# Altium integrated library Wuerth Elektronik SMD Power Choke.IntLib: 844 symbols (part 3 of 9)
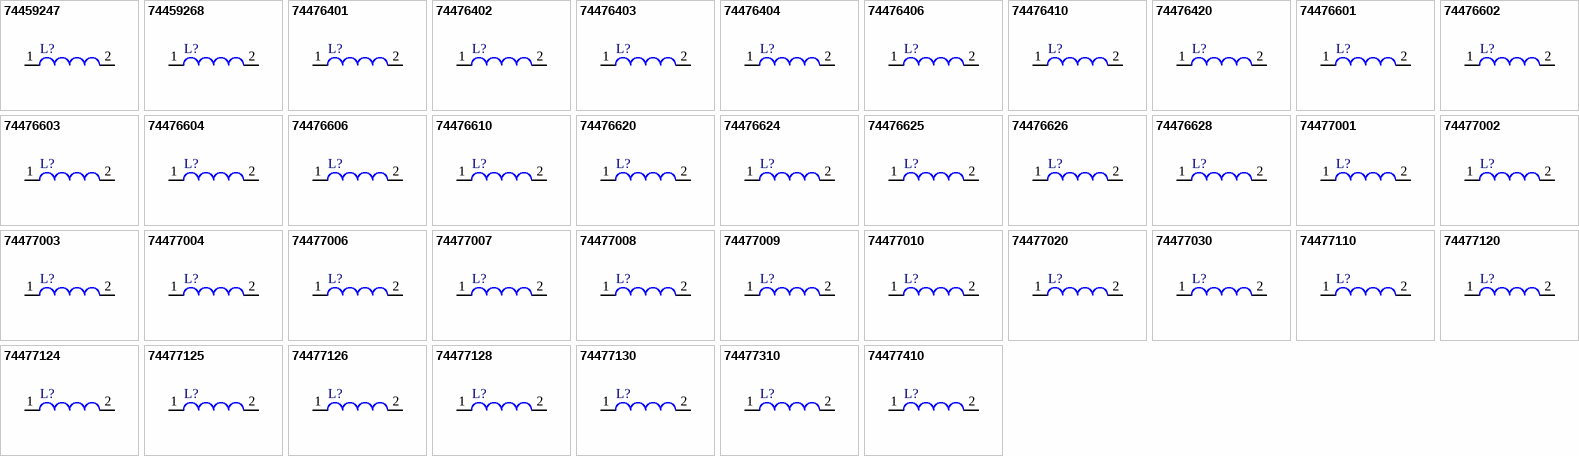
[diagram p24: symbols 74459247 to 74477410]

## 74477030
designator L?
SMD-Shielded Power Inductor WE-PD, L = 1000 µH; Inductance: 1000 µH; DatasheetVersion: ver 5, Oct-2004; PackageVersion: 2004; PackageReference: WE-PD-XL; PackageDescription: SMD Inductor, 2-Leads, Body 12.0 x 12.0 mm; ComponentLink1Description: Manufacturer URL; ComponentLink1URL: http://www.we-online.com; ComponentLink2Description: Datasheet; ComponentLink2URL: http://www.we-online.de/katalog/media/pdf/74477030.pdf
footprint WE-PD-XL (SMD Inductor, 2-Leads, Body 12.0x12.0x8.0 mm)
pins: 1, 2

## 74477110
designator L?
SMD-Shielded Power Inductor WE-PD, L = 10.0 µH; Inductance: 10.0 µH; DatasheetVersion: ver 7, Sep-2006; PackageVersion: 2006; PackageReference: WE-PD-L; PackageDescription: SMD Inductor, 2-Leads, Body 12.0 x 12.0 mm; ComponentLink1Description: Manufacturer URL; ComponentLink1URL: http://www.we-online.com; ComponentLink2Description: Datasheet; ComponentLink2URL: http://www.we-online.de/katalog/media/pdf/74477110.pdf
footprint WE-PD-L (SMD Inductor, 2-Leads, Body 12.0x12.0x6.0 mm)
pins: 1, 2

## 74477120
designator L?
SMD-Shielded Power Inductor WE-PD, L = 100 µH; Inductance: 100 µH; DatasheetVersion: ver 6, Jun-2005; PackageVersion: 2006; PackageReference: WE-PD-L; PackageDescription: SMD Inductor, 2-Leads, Body 12.0 x 12.0 mm; ComponentLink1Description: Manufacturer URL; ComponentLink1URL: http://www.we-online.com; ComponentLink2Description: Datasheet; ComponentLink2URL: http://www.we-online.de/katalog/media/pdf/74477120.pdf
footprint WE-PD-L (SMD Inductor, 2-Leads, Body 12.0x12.0x6.0 mm)
pins: 1, 2

## 74477124
designator L?
SMD-Shielded Power Inductor WE-PD, L = 470 µH; Inductance: 470 µH; DatasheetVersion: ver 6, Jun-2005; PackageVersion: 2006; PackageReference: WE-PD-L; PackageDescription: SMD Inductor, 2-Leads, Body 12.0 x 12.0 mm; ComponentLink1Description: Manufacturer URL; ComponentLink1URL: http://www.we-online.com; ComponentLink2Description: Datasheet; ComponentLink2URL: http://www.we-online.de/katalog/media/pdf/74477124.pdf
footprint WE-PD-L (SMD Inductor, 2-Leads, Body 12.0x12.0x6.0 mm)
pins: 1, 2

## 74477125
designator L?
SMD-Shielded Power Inductor WE-PD, L = 560 µH; Inductance: 560 µH; DatasheetVersion: ver 6, Jun-2005; PackageVersion: 2006; PackageReference: WE-PD-L; PackageDescription: SMD Inductor, 2-Leads, Body 12.0 x 12.0 mm; ComponentLink1Description: Manufacturer URL; ComponentLink1URL: http://www.we-online.com; ComponentLink2Description: Datasheet; ComponentLink2URL: http://www.we-online.de/katalog/media/pdf/74477125.pdf
footprint WE-PD-L (SMD Inductor, 2-Leads, Body 12.0x12.0x6.0 mm)
pins: 1, 2

## 74477126
designator L?
SMD-Shielded Power Inductor WE-PD, L = 680 µH; Inductance: 680 µH; DatasheetVersion: ver 6, Jun-2005; PackageVersion: 2006; PackageReference: WE-PD-L; PackageDescription: SMD Inductor, 2-Leads, Body 12.0 x 12.0 mm; ComponentLink1Description: Manufacturer URL; ComponentLink1URL: http://www.we-online.com; ComponentLink2Description: Datasheet; ComponentLink2URL: http://www.we-online.de/katalog/media/pdf/74477126.pdf
footprint WE-PD-L (SMD Inductor, 2-Leads, Body 12.0x12.0x6.0 mm)
pins: 1, 2

## 74477128
designator L?
SMD-Shielded Power Inductor WE-PD, L = 820 µH; Inductance: 820 µH; DatasheetVersion: ver 6, Jun-2005; PackageVersion: 2006; PackageReference: WE-PD-L; PackageDescription: SMD Inductor, 2-Leads, Body 12.0 x 12.0 mm; ComponentLink1Description: Manufacturer URL; ComponentLink1URL: http://www.we-online.com; ComponentLink2Description: Datasheet; ComponentLink2URL: http://www.we-online.de/katalog/media/pdf/74477128.pdf
footprint WE-PD-L (SMD Inductor, 2-Leads, Body 12.0x12.0x6.0 mm)
pins: 1, 2

## 74477130
designator L?
SMD-Shielded Power Inductor WE-PD, L = 1000 µH; Inductance: 1000 µH; DatasheetVersion: ver 6, Jun-2005; PackageVersion: 2006; PackageReference: WE-PD-L; PackageDescription: SMD Inductor, 2-Leads, Body 12.0 x 12.0 mm; ComponentLink1Description: Manufacturer URL; ComponentLink1URL: http://www.we-online.com; ComponentLink2Description: Datasheet; ComponentLink2URL: http://www.we-online.de/katalog/media/pdf/74477130.pdf
footprint WE-PD-L (SMD Inductor, 2-Leads, Body 12.0x12.0x6.0 mm)
pins: 1, 2

## 74477310
designator L?
SMD Power Inductor WE-PD2, L = 10.0 µH; Inductance: 10.0 µH; DatasheetVersion: ver 1, Oct-2004; PackageVersion: 2004; PackageReference: WE-PD2-S; PackageDescription: SMD Inductor, 2-Leads, Body 4.5 x 4.0 mm; ComponentLink1Description: Manufacturer URL; ComponentLink1URL: http://www.we-online.com; ComponentLink2Description: Datasheet; ComponentLink2URL: http://www.we-online.de/katalog/media/pdf/74477310.pdf
footprint WE-PD2-S (SMD Inductor, 2-Leads, Body 4.5x4.0x3.5 mm)
pins: 1, 2

## 74477410
designator L?
SMD Power Inductor WE-PD2, L = 10.0 µH; Inductance: 10.0 µH; DatasheetVersion: ver 4, Oct-2008; PackageVersion: 2005; PackageReference: WE-PD2-M; PackageDescription: SMD Inductor, 2-Leads, Body 5.8 x 5.2 mm; ComponentLink1Description: Manufacturer URL; ComponentLink1URL: http://www.we-online.com; ComponentLink2Description: Datasheet; ComponentLink2URL: http://www.we-online.de/katalog/media/pdf/74477410.pdf
footprint WE-PD2-M (SMD Inductor, 2-Leads, Body 5.8x5.2x4.85 mm)
pins: 1, 2

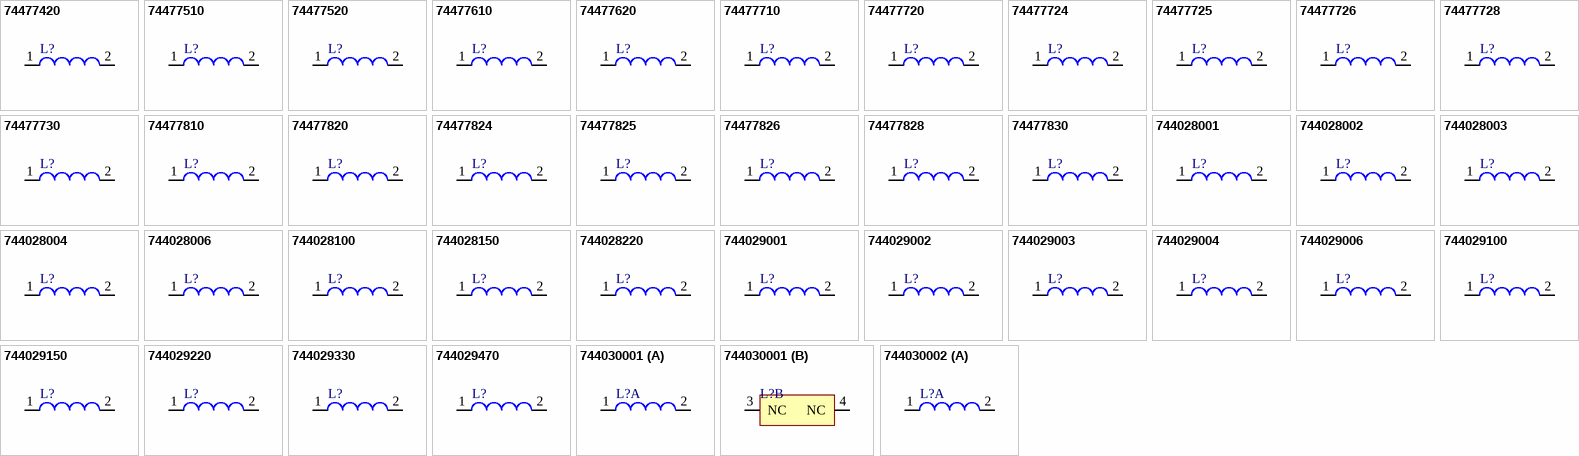
[diagram p5: symbols 74477420 to 744030002]

## 74477420
designator L?
SMD Power Inductor WE-PD2, L = 100 µH; Inductance: 100 µH; DatasheetVersion: ver 2, Jun-2005; PackageVersion: 2005; PackageReference: WE-PD2-M; PackageDescription: SMD Inductor, 2-Leads, Body 5.8 x 5.2 mm; ComponentLink1Description: Manufacturer URL; ComponentLink1URL: http://www.we-online.com; ComponentLink2Description: Datasheet; ComponentLink2URL: http://www.we-online.de/katalog/media/pdf/74477420.pdf
footprint WE-PD2-M (SMD Inductor, 2-Leads, Body 5.8x5.2x4.85 mm)
pins: 1, 2

## 74477510
designator L?
SMD Power Inductor WE-PD2, L = 10.0 µH; Inductance: 10.0 µH; DatasheetVersion: ver 1, Oct-2004; PackageVersion: 2004; PackageReference: WE-PD2-L; PackageDescription: SMD Inductor, 2-Leads, Body 7.8 x 7.0 mm; ComponentLink1Description: Manufacturer URL; ComponentLink1URL: http://www.we-online.com; ComponentLink2Description: Datasheet; ComponentLink2URL: http://www.we-online.de/katalog/media/pdf/74477510.pdf
footprint WE-PD2-L (SMD Inductor, 2-Leads, Body 7.8x7.0x5.5 mm)
pins: 1, 2

## 74477520
designator L?
SMD Power Inductor WE-PD2, L = 100 µH; Inductance: 100 µH; DatasheetVersion: ver 1, Oct-2004; PackageVersion: 2004; PackageReference: WE-PD2-L; PackageDescription: SMD Inductor, 2-Leads, Body 7.8 x 7.0 mm; ComponentLink1Description: Manufacturer URL; ComponentLink1URL: http://www.we-online.com; ComponentLink2Description: Datasheet; ComponentLink2URL: http://www.we-online.de/katalog/media/pdf/74477520.pdf
footprint WE-PD2-L (SMD Inductor, 2-Leads, Body 7.8x7.0x5.5 mm)
pins: 1, 2

## 74477610
designator L?
SMD Power Inductor WE-PD2, L = 10.0 µH; Inductance: 10.0 µH; DatasheetVersion: ver 1, Oct-2004; PackageVersion: 2004; PackageReference: WE-PD2-XL; PackageDescription: SMD Inductor, 2-Leads, Body 10.0 x 9.0 mm; ComponentLink1Description: Manufacturer URL; ComponentLink1URL: http://www.we-online.com; ComponentLink2Description: Datasheet; ComponentLink2URL: http://www.we-online.de/katalog/media/pdf/74477610.pdf
footprint WE-PD2-XL (SMD Inductor, 2-Leads, Body 10.0x9.0x5.9 mm)
pins: 1, 2

## 74477620
designator L?
SMD Power Inductor WE-PD2, L = 100 µH; Inductance: 100 µH; DatasheetVersion: ver 1, Oct-2004; PackageVersion: 2004; PackageReference: WE-PD2-XL; PackageDescription: SMD Inductor, 2-Leads, Body 10.0 x 9.0 mm; ComponentLink1Description: Manufacturer URL; ComponentLink1URL: http://www.we-online.com; ComponentLink2Description: Datasheet; ComponentLink2URL: http://www.we-online.de/katalog/media/pdf/74477620.pdf
footprint WE-PD2-XL (SMD Inductor, 2-Leads, Body 10.0x9.0x5.9 mm)
pins: 1, 2

## 74477710
designator L?
SMD-Shielded Power Inductor WE-PD, L = 10.0 µH; Inductance: 10.0 µH; DatasheetVersion: ver 2, Oct-2004; PackageVersion: 2006; PackageReference: WE-PD-M; PackageDescription: SMD Inductor, 2-Leads, Body 7.3 x 7.3 mm; ComponentLink1Description: Manufacturer URL; ComponentLink1URL: http://www.we-online.com; ComponentLink2Description: Datasheet; ComponentLink2URL: http://www.we-online.de/katalog/media/pdf/74477710.pdf
footprint WE-PD-M (SMD Inductor, 2-Leads, Body 7.3x7.3x4.5 mm)
pins: 1, 2

## 74477720
designator L?
SMD-Shielded Power Inductor WE-PD, L = 100 µH; Inductance: 100 µH; DatasheetVersion: ver 2, Oct-2004; PackageVersion: 2006; PackageReference: WE-PD-M; PackageDescription: SMD Inductor, 2-Leads, Body 7.3 x 7.3 mm; ComponentLink1Description: Manufacturer URL; ComponentLink1URL: http://www.we-online.com; ComponentLink2Description: Datasheet; ComponentLink2URL: http://www.we-online.de/katalog/media/pdf/74477720.pdf
footprint WE-PD-M (SMD Inductor, 2-Leads, Body 7.3x7.3x4.5 mm)
pins: 1, 2

## 74477724
designator L?
SMD-Shielded Power Inductor WE-PD, L = 470 µH; Inductance: 470 µH; DatasheetVersion: ver 2, Oct-2004; PackageVersion: 2006; PackageReference: WE-PD-M; PackageDescription: SMD Inductor, 2-Leads, Body 7.3 x 7.3 mm; ComponentLink1Description: Manufacturer URL; ComponentLink1URL: http://www.we-online.com; ComponentLink2Description: Datasheet; ComponentLink2URL: http://www.we-online.de/katalog/media/pdf/74477724.pdf
footprint WE-PD-M (SMD Inductor, 2-Leads, Body 7.3x7.3x4.5 mm)
pins: 1, 2

## 74477725
designator L?
SMD-Shielded Power Inductor WE-PD, L = 560 µH; Inductance: 560 µH; DatasheetVersion: ver 2, Oct-2004; PackageVersion: 2006; PackageReference: WE-PD-M; PackageDescription: SMD Inductor, 2-Leads, Body 7.3 x 7.3 mm; ComponentLink1Description: Manufacturer URL; ComponentLink1URL: http://www.we-online.com; ComponentLink2Description: Datasheet; ComponentLink2URL: http://www.we-online.de/katalog/media/pdf/74477725.pdf
footprint WE-PD-M (SMD Inductor, 2-Leads, Body 7.3x7.3x4.5 mm)
pins: 1, 2

## 74477726
designator L?
SMD-Shielded Power Inductor WE-PD, L = 680 µH; Inductance: 680 µH; DatasheetVersion: ver 2, Oct-2004; PackageVersion: 2006; PackageReference: WE-PD-M; PackageDescription: SMD Inductor, 2-Leads, Body 7.3 x 7.3 mm; ComponentLink1Description: Manufacturer URL; ComponentLink1URL: http://www.we-online.com; ComponentLink2Description: Datasheet; ComponentLink2URL: http://www.we-online.de/katalog/media/pdf/74477726.pdf
footprint WE-PD-M (SMD Inductor, 2-Leads, Body 7.3x7.3x4.5 mm)
pins: 1, 2

## 74477728
designator L?
SMD-Shielded Power Inductor WE-PD, L = 820 µH; Inductance: 820 µH; DatasheetVersion: ver 2, Oct-2004; PackageVersion: 2006; PackageReference: WE-PD-M; PackageDescription: SMD Inductor, 2-Leads, Body 7.3 x 7.3 mm; ComponentLink1Description: Manufacturer URL; ComponentLink1URL: http://www.we-online.com; ComponentLink2Description: Datasheet; ComponentLink2URL: http://www.we-online.de/katalog/media/pdf/74477728.pdf
footprint WE-PD-M (SMD Inductor, 2-Leads, Body 7.3x7.3x4.5 mm)
pins: 1, 2

## 74477730
designator L?
SMD-Shielded Power Inductor WE-PD, L = 1000 µH; Inductance: 1000 µH; DatasheetVersion: ver 4, Oct-2004; PackageVersion: 2006; PackageReference: WE-PD-M; PackageDescription: SMD Inductor, 2-Leads, Body 7.3 x 7.3 mm; ComponentLink1Description: Manufacturer URL; ComponentLink1URL: http://www.we-online.com; ComponentLink2Description: Datasheet; ComponentLink2URL: http://www.we-online.de/katalog/media/pdf/74477730.pdf
footprint WE-PD-M (SMD Inductor, 2-Leads, Body 7.3x7.3x4.5 mm)
pins: 1, 2

## 74477810
designator L?
SMD-Shielded Power Inductor WE-PD, L = 10.0 µH; Inductance: 10.0 µH; DatasheetVersion: ver 6, Oct-2001; PackageVersion: 2004; PackageReference: WE-PD-S; PackageDescription: SMD Inductor, 2-Leads, Body 7.3 x 7.3 mm; ComponentLink1Description: Manufacturer URL; ComponentLink1URL: http://www.we-online.com; ComponentLink2Description: Datasheet; ComponentLink2URL: http://www.we-online.de/katalog/media/pdf/74477810.pdf
footprint WE-PD-S (SMD Inductor, 2-Leads, Body 7.3x7.3x3.4 mm)
pins: 1, 2

## 74477820
designator L?
SMD-Shielded Power Inductor WE-PD, L = 100 µH; Inductance: 100 µH; DatasheetVersion: ver 5, Oct-2004; PackageVersion: 2004; PackageReference: WE-PD-S; PackageDescription: SMD Inductor, 2-Leads, Body 7.3 x 7.3 mm; ComponentLink1Description: Manufacturer URL; ComponentLink1URL: http://www.we-online.com; ComponentLink2Description: Datasheet; ComponentLink2URL: http://www.we-online.de/katalog/media/pdf/74477820.pdf
footprint WE-PD-S (SMD Inductor, 2-Leads, Body 7.3x7.3x3.4 mm)
pins: 1, 2

## 74477824
designator L?
SMD-Shielded Power Inductor WE-PD, L = 470 µH; Inductance: 470 µH; DatasheetVersion: ver 5, Oct-2004; PackageVersion: 2004; PackageReference: WE-PD-S; PackageDescription: SMD Inductor, 2-Leads, Body 7.3 x 7.3 mm; ComponentLink1Description: Manufacturer URL; ComponentLink1URL: http://www.we-online.com; ComponentLink2Description: Datasheet; ComponentLink2URL: http://www.we-online.de/katalog/media/pdf/74477824.pdf
footprint WE-PD-S (SMD Inductor, 2-Leads, Body 7.3x7.3x3.4 mm)
pins: 1, 2

## 74477825
designator L?
SMD-Shielded Power Inductor WE-PD, L = 560 µH; Inductance: 560 µH; DatasheetVersion: ver 5, Oct-2004; PackageVersion: 2004; PackageReference: WE-PD-S; PackageDescription: SMD Inductor, 2-Leads, Body 7.3 x 7.3 mm; ComponentLink1Description: Manufacturer URL; ComponentLink1URL: http://www.we-online.com; ComponentLink2Description: Datasheet; ComponentLink2URL: http://www.we-online.de/katalog/media/pdf/74477825.pdf
footprint WE-PD-S (SMD Inductor, 2-Leads, Body 7.3x7.3x3.4 mm)
pins: 1, 2

## 74477826
designator L?
SMD-Shielded Power Inductor WE-PD, L = 680 µH; Inductance: 680 µH; DatasheetVersion: ver 5, Oct-2004; PackageVersion: 2004; PackageReference: WE-PD-S; PackageDescription: SMD Inductor, 2-Leads, Body 7.3 x 7.3 mm; ComponentLink1Description: Manufacturer URL; ComponentLink1URL: http://www.we-online.com; ComponentLink2Description: Datasheet; ComponentLink2URL: http://www.we-online.de/katalog/media/pdf/74477826.pdf
footprint WE-PD-S (SMD Inductor, 2-Leads, Body 7.3x7.3x3.4 mm)
pins: 1, 2

## 74477828
designator L?
SMD-Shielded Power Inductor WE-PD, L = 820 µH; Inductance: 820 µH; DatasheetVersion: ver 5, Oct-2004; PackageVersion: 2004; PackageReference: WE-PD-S; PackageDescription: SMD Inductor, 2-Leads, Body 7.3 x 7.3 mm; ComponentLink1Description: Manufacturer URL; ComponentLink1URL: http://www.we-online.com; ComponentLink2Description: Datasheet; ComponentLink2URL: http://www.we-online.de/katalog/media/pdf/74477828.pdf
footprint WE-PD-S (SMD Inductor, 2-Leads, Body 7.3x7.3x3.4 mm)
pins: 1, 2

## 74477830
designator L?
SMD-Shielded Power Inductor WE-PD, L = 1000 µH; Inductance: 1000 µH; DatasheetVersion: ver 5, Oct-2004; PackageVersion: 2004; PackageReference: WE-PD-S; PackageDescription: SMD Inductor, 2-Leads, Body 7.3 x 7.3 mm; ComponentLink1Description: Manufacturer URL; ComponentLink1URL: http://www.we-online.com; ComponentLink2Description: Datasheet; ComponentLink2URL: http://www.we-online.de/katalog/media/pdf/74477830.pdf
footprint WE-PD-S (SMD Inductor, 2-Leads, Body 7.3x7.3x3.4 mm)
pins: 1, 2

## 744028001
designator L?
SMD Shielded Tiny Power Inductor WE-TPC, L = 1.00 µH; Inductance: 1.00 µH; DatasheetVersion: ver 3, Oct-2010; PackageVersion: 2010; PackageReference: WE-TPC-2811-T; PackageDescription: SMD Inductor, 2-Leads, Body 2.8 x 2.8 mm; ComponentLink1Description: Manufacturer URL; ComponentLink1URL: http://www.we-online.com; ComponentLink2Description: Datasheet; ComponentLink2URL: http://www.we-online.de/katalog/media/pdf/744028001.pdf
footprint WE-TPC-2811-T (SMD Inductor, 2-Leads, Body 2.8x2.8x1.2 mm)
pins: 1, 2

## 744028002
designator L?
SMD Shielded Tiny Power Inductor WE-TPC, L = 2.20 µH; Inductance: 2.20 µH; DatasheetVersion: ver 3, Oct-2010; PackageVersion: 2010; PackageReference: WE-TPC-2811-T; PackageDescription: SMD Inductor, 2-Leads, Body 2.8 x 2.8 mm; ComponentLink1Description: Manufacturer URL; ComponentLink1URL: http://www.we-online.com; ComponentLink2Description: Datasheet; ComponentLink2URL: http://www.we-online.de/katalog/media/pdf/744028002.pdf
footprint WE-TPC-2811-T (SMD Inductor, 2-Leads, Body 2.8x2.8x1.2 mm)
pins: 1, 2

## 744028003
designator L?
SMD Shielded Tiny Power Inductor WE-TPC, L = 3.30 µH; Inductance: 3.30 µH; DatasheetVersion: ver 3, Oct-2010; PackageVersion: 2010; PackageReference: WE-TPC-2811-T; PackageDescription: SMD Inductor, 2-Leads, Body 2.8 x 2.8 mm; ComponentLink1Description: Manufacturer URL; ComponentLink1URL: http://www.we-online.com; ComponentLink2Description: Datasheet; ComponentLink2URL: http://www.we-online.de/katalog/media/pdf/744028003.pdf
footprint WE-TPC-2811-T (SMD Inductor, 2-Leads, Body 2.8x2.8x1.2 mm)
pins: 1, 2

## 744028004
designator L?
SMD Shielded Tiny Power Inductor WE-TPC, L = 4.70 µH; Inductance: 4.70 µH; DatasheetVersion: ver 3, Oct-2010; PackageVersion: 2010; PackageReference: WE-TPC-2811-T; PackageDescription: SMD Inductor, 2-Leads, Body 2.8 x 2.8 mm; ComponentLink1Description: Manufacturer URL; ComponentLink1URL: http://www.we-online.com; ComponentLink2Description: Datasheet; ComponentLink2URL: http://www.we-online.de/katalog/media/pdf/744028004.pdf
footprint WE-TPC-2811-T (SMD Inductor, 2-Leads, Body 2.8x2.8x1.2 mm)
pins: 1, 2

## 744028006
designator L?
SMD Shielded Tiny Power Inductor WE-TPC, L = 6.80 µH; Inductance: 6.80 µH; DatasheetVersion: ver 3, Oct-2010; PackageVersion: 2010; PackageReference: WE-TPC-2811-T; PackageDescription: SMD Inductor, 2-Leads, Body 2.8 x 2.8 mm; ComponentLink1Description: Manufacturer URL; ComponentLink1URL: http://www.we-online.com; ComponentLink2Description: Datasheet; ComponentLink2URL: http://www.we-online.de/katalog/media/pdf/744028006.pdf
footprint WE-TPC-2811-T (SMD Inductor, 2-Leads, Body 2.8x2.8x1.2 mm)
pins: 1, 2

## 744028100
designator L?
SMD Shielded Tiny Power Inductor WE-TPC, L = 10.0 µH; Inductance: 10.0 µH; DatasheetVersion: ver 3, Oct-2010; PackageVersion: 2010; PackageReference: WE-TPC-2811-T; PackageDescription: SMD Inductor, 2-Leads, Body 2.8 x 2.8 mm; ComponentLink1Description: Manufacturer URL; ComponentLink1URL: http://www.we-online.com; ComponentLink2Description: Datasheet; ComponentLink2URL: http://www.we-online.de/katalog/media/pdf/744028100.pdf
footprint WE-TPC-2811-T (SMD Inductor, 2-Leads, Body 2.8x2.8x1.2 mm)
pins: 1, 2

## 744028150
designator L?
SMD Shielded Tiny Power Inductor WE-TPC, L = 15.0 µH; Inductance: 15.0 µH; DatasheetVersion: ver 2, Oct-2010; PackageVersion: 2010; PackageReference: WE-TPC-2811-T; PackageDescription: SMD Inductor, 2-Leads, Body 2.8 x 2.8 mm; ComponentLink1Description: Manufacturer URL; ComponentLink1URL: http://www.we-online.com; ComponentLink2Description: Datasheet; ComponentLink2URL: http://www.we-online.de/katalog/media/pdf/744028150.pdf
footprint WE-TPC-2811-T (SMD Inductor, 2-Leads, Body 2.8x2.8x1.2 mm)
pins: 1, 2

## 744028220
designator L?
SMD Shielded Tiny Power Inductor WE-TPC, L = 22.0 µH; Inductance: 22.0 µH; DatasheetVersion: ver 3, Oct-2010; PackageVersion: 2010; PackageReference: WE-TPC-2811-T; PackageDescription: SMD Inductor, 2-Leads, Body 2.8 x 2.8 mm; ComponentLink1Description: Manufacturer URL; ComponentLink1URL: http://www.we-online.com; ComponentLink2Description: Datasheet; ComponentLink2URL: http://www.we-online.de/katalog/media/pdf/744028220.pdf
footprint WE-TPC-2811-T (SMD Inductor, 2-Leads, Body 2.8x2.8x1.2 mm)
pins: 1, 2

## 744029001
designator L?
SMD Shielded Tiny Power Inductor WE-TPC, L = 1.00 µH; Inductance: 1.00 µH; DatasheetVersion: ver 3, Oct-2010; PackageVersion: 2010; PackageReference: WE-TPC-2813-TH; PackageDescription: SMD Inductor, 2-Leads, Body 2.8 x 2.8 mm; ComponentLink1Description: Manufacturer URL; ComponentLink1URL: http://www.we-online.com; ComponentLink2Description: Datasheet; ComponentLink2URL: http://www.we-online.de/katalog/media/pdf/744029001.pdf
footprint WE-TPC-2813-TH (SMD Inductor, 2-Leads, Body 2.8x2.8x1.5 mm)
pins: 1, 2

## 744029002
designator L?
SMD Shielded Tiny Power Inductor WE-TPC, L = 2.20 µH; Inductance: 2.20 µH; DatasheetVersion: ver 3, Oct-2010; PackageVersion: 2010; PackageReference: WE-TPC-2813-TH; PackageDescription: SMD Inductor, 2-Leads, Body 2.8 x 2.8 mm; ComponentLink1Description: Manufacturer URL; ComponentLink1URL: http://www.we-online.com; ComponentLink2Description: Datasheet; ComponentLink2URL: http://www.we-online.de/katalog/media/pdf/744029002.pdf
footprint WE-TPC-2813-TH (SMD Inductor, 2-Leads, Body 2.8x2.8x1.5 mm)
pins: 1, 2

## 744029003
designator L?
SMD Shielded Tiny Power Inductor WE-TPC, L = 3.30 µH; Inductance: 3.30 µH; DatasheetVersion: ver 3, Oct-2010; PackageVersion: 2010; PackageReference: WE-TPC-2813-TH; PackageDescription: SMD Inductor, 2-Leads, Body 2.8 x 2.8 mm; ComponentLink1Description: Manufacturer URL; ComponentLink1URL: http://www.we-online.com; ComponentLink2Description: Datasheet; ComponentLink2URL: http://www.we-online.de/katalog/media/pdf/744029003.pdf
footprint WE-TPC-2813-TH (SMD Inductor, 2-Leads, Body 2.8x2.8x1.5 mm)
pins: 1, 2

## 744029004
designator L?
SMD Shielded Tiny Power Inductor WE-TPC, L = 4.70 µH; Inductance: 4.70 µH; DatasheetVersion: ver 3, Oct-2010; PackageVersion: 2010; PackageReference: WE-TPC-2813-TH; PackageDescription: SMD Inductor, 2-Leads, Body 2.8 x 2.8 mm; ComponentLink1Description: Manufacturer URL; ComponentLink1URL: http://www.we-online.com; ComponentLink2Description: Datasheet; ComponentLink2URL: http://www.we-online.de/katalog/media/pdf/744029004.pdf
footprint WE-TPC-2813-TH (SMD Inductor, 2-Leads, Body 2.8x2.8x1.5 mm)
pins: 1, 2

## 744029006
designator L?
SMD Shielded Tiny Power Inductor WE-TPC, L = 6.80 µH; Inductance: 6.80 µH; DatasheetVersion: ver 3, Oct-2010; PackageVersion: 2010; PackageReference: WE-TPC-2813-TH; PackageDescription: SMD Inductor, 2-Leads, Body 2.8 x 2.8 mm; ComponentLink1Description: Manufacturer URL; ComponentLink1URL: http://www.we-online.com; ComponentLink2Description: Datasheet; ComponentLink2URL: http://www.we-online.de/katalog/media/pdf/744029006.pdf
footprint WE-TPC-2813-TH (SMD Inductor, 2-Leads, Body 2.8x2.8x1.5 mm)
pins: 1, 2

## 744029100
designator L?
SMD Shielded Tiny Power Inductor WE-TPC, L = 10.0 µH; Inductance: 10.0 µH; DatasheetVersion: ver 3, Oct-2010; PackageVersion: 2010; PackageReference: WE-TPC-2813-TH; PackageDescription: SMD Inductor, 2-Leads, Body 2.8 x 2.8 mm; ComponentLink1Description: Manufacturer URL; ComponentLink1URL: http://www.we-online.com; ComponentLink2Description: Datasheet; ComponentLink2URL: http://www.we-online.de/katalog/media/pdf/744029100.pdf
footprint WE-TPC-2813-TH (SMD Inductor, 2-Leads, Body 2.8x2.8x1.5 mm)
pins: 1, 2

## 744029150
designator L?
SMD Shielded Tiny Power Inductor WE-TPC, L = 15.0 µH; Inductance: 15.0 µH; DatasheetVersion: ver 3, Mar-2011; PackageVersion: 2010; PackageReference: WE-TPC-2813-TH; PackageDescription: SMD Inductor, 2-Leads, Body 2.8 x 2.8 mm; ComponentLink1Description: Manufacturer URL; ComponentLink1URL: http://www.we-online.com; ComponentLink2Description: Datasheet; ComponentLink2URL: http://www.we-online.de/katalog/media/pdf/744029150.pdf
footprint WE-TPC-2813-TH (SMD Inductor, 2-Leads, Body 2.8x2.8x1.5 mm)
pins: 1, 2

## 744029220
designator L?
SMD Shielded Tiny Power Inductor WE-TPC, L = 22.0 µH; Inductance: 22.0 µH; DatasheetVersion: ver 3, Oct-2010; PackageVersion: 2010; PackageReference: WE-TPC-2813-TH; PackageDescription: SMD Inductor, 2-Leads, Body 2.8 x 2.8 mm; ComponentLink1Description: Manufacturer URL; ComponentLink1URL: http://www.we-online.com; ComponentLink2Description: Datasheet; ComponentLink2URL: http://www.we-online.de/katalog/media/pdf/744029220.pdf
footprint WE-TPC-2813-TH (SMD Inductor, 2-Leads, Body 2.8x2.8x1.5 mm)
pins: 1, 2

## 744029330
designator L?
SMD Shielded Tiny Power Inductor WE-TPC, L = 33.0 µH; Inductance: 33.0 µH; DatasheetVersion: ver 2, Oct-2010; PackageVersion: 2010; PackageReference: WE-TPC-2813-TH; PackageDescription: SMD Inductor, 2-Leads, Body 2.8 x 2.8 mm; ComponentLink1Description: Manufacturer URL; ComponentLink1URL: http://www.we-online.com; ComponentLink2Description: Datasheet; ComponentLink2URL: http://www.we-online.de/katalog/media/pdf/744029330.pdf
footprint WE-TPC-2813-TH (SMD Inductor, 2-Leads, Body 2.8x2.8x1.5 mm)
pins: 1, 2

## 744029470
designator L?
SMD Shielded Tiny Power Inductor WE-TPC, L = 47.0 µH; Inductance: 47.0 µH; DatasheetVersion: ver 2, Oct-2010; PackageVersion: 2010; PackageReference: WE-TPC-2813-TH; PackageDescription: SMD Inductor, 2-Leads, Body 2.8 x 2.8 mm; ComponentLink1Description: Manufacturer URL; ComponentLink1URL: http://www.we-online.com; ComponentLink2Description: Datasheet; ComponentLink2URL: http://www.we-online.de/katalog/media/pdf/744029470.pdf
footprint WE-TPC-2813-TH (SMD Inductor, 2-Leads, Body 2.8x2.8x1.5 mm)
pins: 1, 2

## 744030001
designator L?
SMD Shielded Tiny Power Inductor WE-TPC, L = 1.20 µH; Inductance: 1.20 µH; DatasheetVersion: ver 6, Jun-2009; PackageVersion: 2009; PackageReference: WE-TPC-3510-XS; PackageDescription: SMD Inductor, 2-Leads, Body 3.3 x 3.5 mm; ComponentLink1Description: Manufacturer URL; ComponentLink1URL: http://www.we-online.com; ComponentLink2Description: Datasheet; ComponentLink2URL: http://www.we-online.de/katalog/media/pdf/744030001.pdf
footprint WE-TPC-3510-XS (SMD Inductor, 2-Leads, Body 3.3x3.5x1.05 mm)
part A pins: 1, 2
part B pins: 3 NC, 4 NC

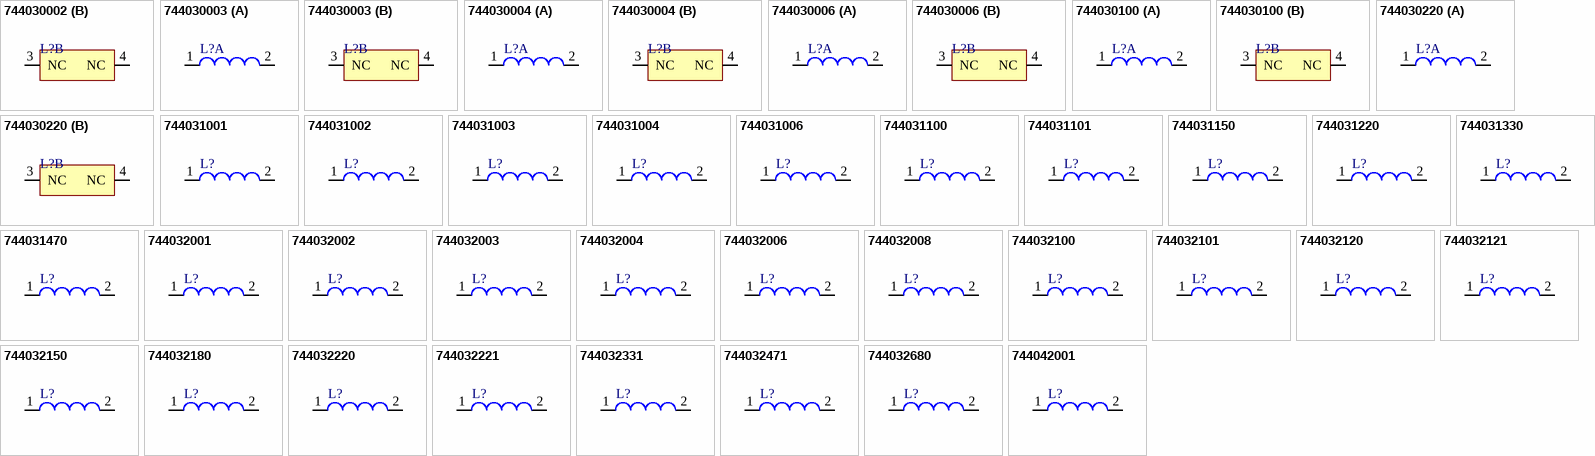
[diagram p6: symbols 744030002 to 744042001]

## 744030002
designator L?
SMD Shielded Tiny Power Inductor WE-TPC, L = 2.20 µH; Inductance: 2.20 µH; DatasheetVersion: ver 6, Jun-2009; PackageVersion: 2009; PackageReference: WE-TPC-3510-XS; PackageDescription: SMD Inductor, 2-Leads, Body 3.3 x 3.5 mm; ComponentLink1Description: Manufacturer URL; ComponentLink1URL: http://www.we-online.com; ComponentLink2Description: Datasheet; ComponentLink2URL: http://www.we-online.de/katalog/media/pdf/744030002.pdf
footprint WE-TPC-3510-XS (SMD Inductor, 2-Leads, Body 3.3x3.5x1.05 mm)
part A pins: 1, 2
part B pins: 3 NC, 4 NC

## 744030003
designator L?
SMD Shielded Tiny Power Inductor WE-TPC, L = 3.30 µH; Inductance: 3.30 µH; DatasheetVersion: ver 6, Jun-2009; PackageVersion: 2009; PackageReference: WE-TPC-3510-XS; PackageDescription: SMD Inductor, 2-Leads, Body 3.3 x 3.5 mm; ComponentLink1Description: Manufacturer URL; ComponentLink1URL: http://www.we-online.com; ComponentLink2Description: Datasheet; ComponentLink2URL: http://www.we-online.de/katalog/media/pdf/744030003.pdf
footprint WE-TPC-3510-XS (SMD Inductor, 2-Leads, Body 3.3x3.5x1.05 mm)
part A pins: 1, 2
part B pins: 3 NC, 4 NC

## 744030004
designator L?
SMD Shielded Tiny Power Inductor WE-TPC, L = 4.70 µH; Inductance: 4.70 µH; DatasheetVersion: ver 6, Jun-2009; PackageVersion: 2009; PackageReference: WE-TPC-3510-XS; PackageDescription: SMD Inductor, 2-Leads, Body 3.3 x 3.5 mm; ComponentLink1Description: Manufacturer URL; ComponentLink1URL: http://www.we-online.com; ComponentLink2Description: Datasheet; ComponentLink2URL: http://www.we-online.de/katalog/media/pdf/744030004.pdf
footprint WE-TPC-3510-XS (SMD Inductor, 2-Leads, Body 3.3x3.5x1.05 mm)
part A pins: 1, 2
part B pins: 3 NC, 4 NC

## 744030006
designator L?
SMD Shielded Tiny Power Inductor WE-TPC, L = 6.80 µH; Inductance: 6.80 µH; DatasheetVersion: ver 6, Jun-2009; PackageVersion: 2009; PackageReference: WE-TPC-3510-XS; PackageDescription: SMD Inductor, 2-Leads, Body 3.3 x 3.5 mm; ComponentLink1Description: Manufacturer URL; ComponentLink1URL: http://www.we-online.com; ComponentLink2Description: Datasheet; ComponentLink2URL: http://www.we-online.de/katalog/media/pdf/744030006.pdf
footprint WE-TPC-3510-XS (SMD Inductor, 2-Leads, Body 3.3x3.5x1.05 mm)
part A pins: 1, 2
part B pins: 3 NC, 4 NC

## 744030100
designator L?
SMD Shielded Tiny Power Inductor WE-TPC, L = 10.0 µH; Inductance: 10.0 µH; DatasheetVersion: ver 6, Jun-2009; PackageVersion: 2009; PackageReference: WE-TPC-3510-XS; PackageDescription: SMD Inductor, 2-Leads, Body 3.3 x 3.5 mm; ComponentLink1Description: Manufacturer URL; ComponentLink1URL: http://www.we-online.com; ComponentLink2Description: Datasheet; ComponentLink2URL: http://www.we-online.de/katalog/media/pdf/744030100.pdf
footprint WE-TPC-3510-XS (SMD Inductor, 2-Leads, Body 3.3x3.5x1.05 mm)
part A pins: 1, 2
part B pins: 3 NC, 4 NC

## 744030220
designator L?
SMD Shielded Tiny Power Inductor WE-TPC, L = 22.0 µH; Inductance: 22.0 µH; DatasheetVersion: ver 6, Jun-2009; PackageVersion: 2009; PackageReference: WE-TPC-3510-XS; PackageDescription: SMD Inductor, 2-Leads, Body 3.3 x 3.5 mm; ComponentLink1Description: Manufacturer URL; ComponentLink1URL: http://www.we-online.com; ComponentLink2Description: Datasheet; ComponentLink2URL: http://www.we-online.de/katalog/media/pdf/744030220.pdf
footprint WE-TPC-3510-XS (SMD Inductor, 2-Leads, Body 3.3x3.5x1.05 mm)
part A pins: 1, 2
part B pins: 3 NC, 4 NC

## 744031001
designator L?
SMD Shielded Tiny Power Inductor WE-TPC, L = 1.50 µH; Inductance: 1.50 µH; DatasheetVersion: ver 6, Jan-2009; PackageVersion: 2009; PackageReference: WE-TPC-3816-S; PackageDescription: SMD Inductor, 2-Leads, Body 3.8 x 3.8 mm; ComponentLink1Description: Manufacturer URL; ComponentLink1URL: http://www.we-online.com; ComponentLink2Description: Datasheet; ComponentLink2URL: http://www.we-online.de/katalog/media/pdf/744031001.pdf
footprint WE-TPC-3816-S (SMD Inductor, 2-Leads, Body 3.8x3.8x1.8 mm)
pins: 1, 2

## 744031002
designator L?
SMD Shielded Tiny Power Inductor WE-TPC, L = 2.50 µH; Inductance: 2.50 µH; DatasheetVersion: ver 6, Jan-2009; PackageVersion: 2009; PackageReference: WE-TPC-3816-S; PackageDescription: SMD Inductor, 2-Leads, Body 3.8 x 3.8 mm; ComponentLink1Description: Manufacturer URL; ComponentLink1URL: http://www.we-online.com; ComponentLink2Description: Datasheet; ComponentLink2URL: http://www.we-online.de/katalog/media/pdf/744031002.pdf
footprint WE-TPC-3816-S (SMD Inductor, 2-Leads, Body 3.8x3.8x1.8 mm)
pins: 1, 2

## 744031003
designator L?
SMD Shielded Tiny Power Inductor WE-TPC, L = 3.60 µH; Inductance: 3.60 µH; DatasheetVersion: ver 6, Jan-2009; PackageVersion: 2009; PackageReference: WE-TPC-3816-S; PackageDescription: SMD Inductor, 2-Leads, Body 3.8 x 3.8 mm; ComponentLink1Description: Manufacturer URL; ComponentLink1URL: http://www.we-online.com; ComponentLink2Description: Datasheet; ComponentLink2URL: http://www.we-online.de/katalog/media/pdf/744031003.pdf
footprint WE-TPC-3816-S (SMD Inductor, 2-Leads, Body 3.8x3.8x1.8 mm)
pins: 1, 2

## 744031004
designator L?
SMD Shielded Tiny Power Inductor WE-TPC, L = 4.70 µH; Inductance: 4.70 µH; DatasheetVersion: ver 6, Jan-2009; PackageVersion: 2009; PackageReference: WE-TPC-3816-S; PackageDescription: SMD Inductor, 2-Leads, Body 3.8 x 3.8 mm; ComponentLink1Description: Manufacturer URL; ComponentLink1URL: http://www.we-online.com; ComponentLink2Description: Datasheet; ComponentLink2URL: http://www.we-online.de/katalog/media/pdf/744031004.pdf
footprint WE-TPC-3816-S (SMD Inductor, 2-Leads, Body 3.8x3.8x1.8 mm)
pins: 1, 2

## 744031006
designator L?
SMD Shielded Tiny Power Inductor WE-TPC, L = 6.80 µH; Inductance: 6.80 µH; DatasheetVersion: ver 6, Jan-2009; PackageVersion: 2009; PackageReference: WE-TPC-3816-S; PackageDescription: SMD Inductor, 2-Leads, Body 3.8 x 3.8 mm; ComponentLink1Description: Manufacturer URL; ComponentLink1URL: http://www.we-online.com; ComponentLink2Description: Datasheet; ComponentLink2URL: http://www.we-online.de/katalog/media/pdf/744031006.pdf
footprint WE-TPC-3816-S (SMD Inductor, 2-Leads, Body 3.8x3.8x1.8 mm)
pins: 1, 2

## 744031100
designator L?
SMD Shielded Tiny Power Inductor WE-TPC, L = 10.0 µH; Inductance: 10.0 µH; DatasheetVersion: ver 6, Jan-2009; PackageVersion: 2009; PackageReference: WE-TPC-3816-S; PackageDescription: SMD Inductor, 2-Leads, Body 3.8 x 3.8 mm; ComponentLink1Description: Manufacturer URL; ComponentLink1URL: http://www.we-online.com; ComponentLink2Description: Datasheet; ComponentLink2URL: http://www.we-online.de/katalog/media/pdf/744031100.pdf
footprint WE-TPC-3816-S (SMD Inductor, 2-Leads, Body 3.8x3.8x1.8 mm)
pins: 1, 2

## 744031101
designator L?
SMD Shielded Tiny Power Inductor WE-TPC, L = 100 µH; Inductance: 100 µH; DatasheetVersion: ver 6, Jan-2009; PackageVersion: 2009; PackageReference: WE-TPC-3816-S; PackageDescription: SMD Inductor, 2-Leads, Body 3.8 x 3.8 mm; ComponentLink1Description: Manufacturer URL; ComponentLink1URL: http://www.we-online.com; ComponentLink2Description: Datasheet; ComponentLink2URL: http://www.we-online.de/katalog/media/pdf/744031101.pdf
footprint WE-TPC-3816-S (SMD Inductor, 2-Leads, Body 3.8x3.8x1.8 mm)
pins: 1, 2

## 744031150
designator L?
SMD Shielded Tiny Power Inductor WE-TPC, L = 15.0 µH; Inductance: 15.0 µH; DatasheetVersion: ver 6, Jan-2009; PackageVersion: 2009; PackageReference: WE-TPC-3816-S; PackageDescription: SMD Inductor, 2-Leads, Body 3.8 x 3.8 mm; ComponentLink1Description: Manufacturer URL; ComponentLink1URL: http://www.we-online.com; ComponentLink2Description: Datasheet; ComponentLink2URL: http://www.we-online.de/katalog/media/pdf/744031150.pdf
footprint WE-TPC-3816-S (SMD Inductor, 2-Leads, Body 3.8x3.8x1.8 mm)
pins: 1, 2

## 744031220
designator L?
SMD Shielded Tiny Power Inductor WE-TPC, L = 22.0 µH; Inductance: 22.0 µH; DatasheetVersion: ver 6, Jan-2009; PackageVersion: 2009; PackageReference: WE-TPC-3816-S; PackageDescription: SMD Inductor, 2-Leads, Body 3.8 x 3.8 mm; ComponentLink1Description: Manufacturer URL; ComponentLink1URL: http://www.we-online.com; ComponentLink2Description: Datasheet; ComponentLink2URL: http://www.we-online.de/katalog/media/pdf/744031220.pdf
footprint WE-TPC-3816-S (SMD Inductor, 2-Leads, Body 3.8x3.8x1.8 mm)
pins: 1, 2

## 744031330
designator L?
SMD Shielded Tiny Power Inductor WE-TPC, L = 33.0 µH; Inductance: 33.0 µH; DatasheetVersion: ver 6, Jan-2009; PackageVersion: 2009; PackageReference: WE-TPC-3816-S; PackageDescription: SMD Inductor, 2-Leads, Body 3.8 x 3.8 mm; ComponentLink1Description: Manufacturer URL; ComponentLink1URL: http://www.we-online.com; ComponentLink2Description: Datasheet; ComponentLink2URL: http://www.we-online.de/katalog/media/pdf/744031330.pdf
footprint WE-TPC-3816-S (SMD Inductor, 2-Leads, Body 3.8x3.8x1.8 mm)
pins: 1, 2

## 744031470
designator L?
SMD Shielded Tiny Power Inductor WE-TPC, L = 47.0 µH; Inductance: 47.0 µH; DatasheetVersion: ver 6, Jan-2009; PackageVersion: 2009; PackageReference: WE-TPC-3816-S; PackageDescription: SMD Inductor, 2-Leads, Body 3.8 x 3.8 mm; ComponentLink1Description: Manufacturer URL; ComponentLink1URL: http://www.we-online.com; ComponentLink2Description: Datasheet; ComponentLink2URL: http://www.we-online.de/katalog/media/pdf/744031470.pdf
footprint WE-TPC-3816-S (SMD Inductor, 2-Leads, Body 3.8x3.8x1.8 mm)
pins: 1, 2

## 744032001
designator L?
SMD-RF-Inductor WE-LQ, L = 1.00 µH; Inductance: 1.00 µH; DatasheetVersion: ver 3, Jul-2006; PackageVersion: 2006; PackageReference: WE-LQ-M; PackageDescription: Inductor, 2-Leads, Body 3.2 x 2.5 mm; ComponentLink1Description: Manufacturer URL; ComponentLink1URL: http://www.we-online.com; ComponentLink2Description: Datasheet; ComponentLink2URL: http://www.we-online.de/katalog/media/pdf/744032001.pdf
footprint WE-LQ-M (Inductor, 2-Leads, Body 3.2x2.5x2.3 mm)
pins: 1, 2

## 744032002
designator L?
SMD-RF-Inductor WE-LQ, L = 2.20 µH; Inductance: 2.20 µH; DatasheetVersion: ver 3, Jul-2006; PackageVersion: 2006; PackageReference: WE-LQ-M; PackageDescription: Inductor, 2-Leads, Body 3.2 x 2.5 mm; ComponentLink1Description: Manufacturer URL; ComponentLink1URL: http://www.we-online.com; ComponentLink2Description: Datasheet; ComponentLink2URL: http://www.we-online.de/katalog/media/pdf/744032002.pdf
footprint WE-LQ-M (Inductor, 2-Leads, Body 3.2x2.5x2.3 mm)
pins: 1, 2

## 744032003
designator L?
SMD-RF-Inductor WE-LQ, L = 3.30 µH; Inductance: 3.30 µH; DatasheetVersion: ver 3, Jul-2006; PackageVersion: 2006; PackageReference: WE-LQ-M; PackageDescription: Inductor, 2-Leads, Body 3.2 x 2.5 mm; ComponentLink1Description: Manufacturer URL; ComponentLink1URL: http://www.we-online.com; ComponentLink2Description: Datasheet; ComponentLink2URL: http://www.we-online.de/katalog/media/pdf/744032003.pdf
footprint WE-LQ-M (Inductor, 2-Leads, Body 3.2x2.5x2.3 mm)
pins: 1, 2

## 744032004
designator L?
SMD-RF-Inductor WE-LQ, L = 4.70 µH; Inductance: 4.70 µH; DatasheetVersion: ver 3, Jul-2006; PackageVersion: 2006; PackageReference: WE-LQ-M; PackageDescription: Inductor, 2-Leads, Body 3.2 x 2.5 mm; ComponentLink1Description: Manufacturer URL; ComponentLink1URL: http://www.we-online.com; ComponentLink2Description: Datasheet; ComponentLink2URL: http://www.we-online.de/katalog/media/pdf/744032004.pdf
footprint WE-LQ-M (Inductor, 2-Leads, Body 3.2x2.5x2.3 mm)
pins: 1, 2

## 744032006
designator L?
SMD-RF-Inductor WE-LQ, L = 6.80 µH; Inductance: 6.80 µH; DatasheetVersion: ver 3, Jul-2006; PackageVersion: 2006; PackageReference: WE-LQ-M; PackageDescription: Inductor, 2-Leads, Body 3.2 x 2.5 mm; ComponentLink1Description: Manufacturer URL; ComponentLink1URL: http://www.we-online.com; ComponentLink2Description: Datasheet; ComponentLink2URL: http://www.we-online.de/katalog/media/pdf/744032006.pdf
footprint WE-LQ-M (Inductor, 2-Leads, Body 3.2x2.5x2.3 mm)
pins: 1, 2

## 744032008
designator L?
SMD-RF-Inductor WE-LQ, L = 8.20 µH; Inductance: 8.20 µH; DatasheetVersion: ver 3, Jul-2006; PackageVersion: 2006; PackageReference: WE-LQ-M; PackageDescription: Inductor, 2-Leads, Body 3.2 x 2.5 mm; ComponentLink1Description: Manufacturer URL; ComponentLink1URL: http://www.we-online.com; ComponentLink2Description: Datasheet; ComponentLink2URL: http://www.we-online.de/katalog/media/pdf/744032008.pdf
footprint WE-LQ-M (Inductor, 2-Leads, Body 3.2x2.5x2.3 mm)
pins: 1, 2

## 744032100
designator L?
SMD-RF-Inductor WE-LQ, L = 10.0 µH; Inductance: 10.0 µH; DatasheetVersion: ver 2, Jul-2005; PackageVersion: 2006; PackageReference: WE-LQ-M; PackageDescription: Inductor, 2-Leads, Body 3.2 x 2.5 mm; ComponentLink1Description: Manufacturer URL; ComponentLink1URL: http://www.we-online.com; ComponentLink2Description: Datasheet; ComponentLink2URL: http://www.we-online.de/katalog/media/pdf/744032100.pdf
footprint WE-LQ-M (Inductor, 2-Leads, Body 3.2x2.5x2.3 mm)
pins: 1, 2

## 744032101
designator L?
SMD-RF-Inductor WE-LQ, L = 100.0 µH; DatasheetVersion: ver 4, May-2007; PackageVersion: 2006; PackageReference: WE-LQ-M; PackageDescription: Inductor, 2-Leads, Body 3.2 x 2.5 mm; Inductance: 100.0 µH; ComponentLink1Description: Manufacturer URL; ComponentLink1URL: http://www.we-online.com; ComponentLink2Description: Datasheet; ComponentLink2URL: http://www.we-online.de/katalog/media/pdf/744032101.pdf
footprint WE-LQ-M (Inductor, 2-Leads, Body 3.2x2.5x2.3 mm)
pins: 1, 2

## 744032120
designator L?
SMD-RF-Inductor WE-LQ, L = 12.0 µH; Inductance: 12.0 µH; DatasheetVersion: ver 3, Jul-2006; PackageVersion: 2006; PackageReference: WE-LQ-M; PackageDescription: Inductor, 2-Leads, Body 3.2 x 2.5 mm; ComponentLink1Description: Manufacturer URL; ComponentLink1URL: http://www.we-online.com; ComponentLink2Description: Datasheet; ComponentLink2URL: http://www.we-online.de/katalog/media/pdf/744032120.pdf
footprint WE-LQ-M (Inductor, 2-Leads, Body 3.2x2.5x2.3 mm)
pins: 1, 2

## 744032121
designator L?
SMD-RF-Inductor WE-LQ, L = 120.0 µH; DatasheetVersion: ver 3, Jul-2006; PackageVersion: 2006; PackageReference: WE-LQ-M; PackageDescription: Inductor, 2-Leads, Body 3.2 x 2.5 mm; Inductance: 120.0 µH; ComponentLink1Description: Manufacturer URL; ComponentLink1URL: http://www.we-online.com; ComponentLink2Description: Datasheet; ComponentLink2URL: http://www.we-online.de/katalog/media/pdf/744032121.pdf
footprint WE-LQ-M (Inductor, 2-Leads, Body 3.2x2.5x2.3 mm)
pins: 1, 2

## 744032150
designator L?
SMD-RF-Inductor WE-LQ, L = 15.0 µH; Inductance: 15.0 µH; DatasheetVersion: ver 3, Jul-2006; PackageVersion: 2006; PackageReference: WE-LQ-M; PackageDescription: Inductor, 2-Leads, Body 3.2 x 2.5 mm; ComponentLink1Description: Manufacturer URL; ComponentLink1URL: http://www.we-online.com; ComponentLink2Description: Datasheet; ComponentLink2URL: http://www.we-online.de/katalog/media/pdf/744032150.pdf
footprint WE-LQ-M (Inductor, 2-Leads, Body 3.2x2.5x2.3 mm)
pins: 1, 2

## 744032180
designator L?
SMD-RF-Inductor WE-LQ, L = 18.0 µH; Inductance: 18.0 µH; DatasheetVersion: ver 3, Jul-2006; PackageVersion: 2006; PackageReference: WE-LQ-M; PackageDescription: Inductor, 2-Leads, Body 3.2 x 2.5 mm; ComponentLink1Description: Manufacturer URL; ComponentLink1URL: http://www.we-online.com; ComponentLink2Description: Datasheet; ComponentLink2URL: http://www.we-online.de/katalog/media/pdf/744032180.pdf
footprint WE-LQ-M (Inductor, 2-Leads, Body 3.2x2.5x2.3 mm)
pins: 1, 2

## 744032220
designator L?
SMD-RF-Inductor WE-LQ, L = 22.0 µH; Inductance: 22.0 µH; DatasheetVersion: ver 3, Jul-2006; PackageVersion: 2006; PackageReference: WE-LQ-M; PackageDescription: Inductor, 2-Leads, Body 3.2 x 2.5 mm; ComponentLink1Description: Manufacturer URL; ComponentLink1URL: http://www.we-online.com; ComponentLink2Description: Datasheet; ComponentLink2URL: http://www.we-online.de/katalog/media/pdf/744032220.pdf
footprint WE-LQ-M (Inductor, 2-Leads, Body 3.2x2.5x2.3 mm)
pins: 1, 2

## 744032221
designator L?
SMD-RF-Inductor WE-LQ, L = 220.0 µH; DatasheetVersion: ver 3, Oct-2008; PackageVersion: 2006; PackageReference: WE-LQ-M; PackageDescription: Inductor, 2-Leads, Body 3.2 x 2.5 mm; Inductance: 220.0 µH; ComponentLink1Description: Manufacturer URL; ComponentLink1URL: http://www.we-online.com; ComponentLink2Description: Datasheet; ComponentLink2URL: http://www.we-online.de/katalog/media/pdf/744032221.pdf
footprint WE-LQ-M (Inductor, 2-Leads, Body 3.2x2.5x2.3 mm)
pins: 1, 2

## 744032331
designator L?
SMD-RF-Inductor WE-LQ, L = 330 µH; Inductance: 330 µH; DatasheetVersion: ver 3, Jul-2006; PackageVersion: 2006; PackageReference: WE-LQ-M; PackageDescription: Inductor, 2-Leads, Body 3.2 x 2.5 mm; ComponentLink1Description: Manufacturer URL; ComponentLink1URL: http://www.we-online.com; ComponentLink2Description: Datasheet; ComponentLink2URL: http://www.we-online.de/katalog/media/pdf/744032331.pdf
footprint WE-LQ-M (Inductor, 2-Leads, Body 3.2x2.5x2.3 mm)
pins: 1, 2

## 744032471
designator L?
SMD-RF-Inductor WE-LQ, L = 470 µH; Inductance: 470 µH; DatasheetVersion: ver 3, Jul-2006; PackageVersion: 2006; PackageReference: WE-LQ-M; PackageDescription: Inductor, 2-Leads, Body 3.2 x 2.5 mm; ComponentLink1Description: Manufacturer URL; ComponentLink1URL: http://www.we-online.com; ComponentLink2Description: Datasheet; ComponentLink2URL: http://www.we-online.de/katalog/media/pdf/744032471.pdf
footprint WE-LQ-M (Inductor, 2-Leads, Body 3.2x2.5x2.3 mm)
pins: 1, 2

## 744032680
designator L?
SMD-RF-Inductor WE-LQ, L = 68.0 µH; Inductance: 68.0 µH; DatasheetVersion: ver 3, Jul-2006; PackageVersion: 2006; PackageReference: WE-LQ-M; PackageDescription: Inductor, 2-Leads, Body 3.2 x 2.5 mm; ComponentLink1Description: Manufacturer URL; ComponentLink1URL: http://www.we-online.com; ComponentLink2Description: Datasheet; ComponentLink2URL: http://www.we-online.de/katalog/media/pdf/744032680.pdf
footprint WE-LQ-M (Inductor, 2-Leads, Body 3.2x2.5x2.3 mm)
pins: 1, 2

## 744042001
designator L?
SMD Shielded Tiny Power Inductor WE-TPC, L = 1.00 µH; Inductance: 1.00 µH; DatasheetVersion: ver 6, Aug-2010; PackageVersion: 2010; PackageReference: WE-TPC-4818-M; PackageDescription: SMD Inductor, 2-Leads, Body 4.8 x 4.8 mm; ComponentLink1Description: Manufacturer URL; ComponentLink1URL: http://www.we-online.com; ComponentLink2Description: Datasheet; ComponentLink2URL: http://www.we-online.de/katalog/media/pdf/744042001.pdf
footprint WE-TPC-4818-M (SMD Inductor, 2-Leads, Body 4.8x4.8x2.0 mm)
pins: 1, 2

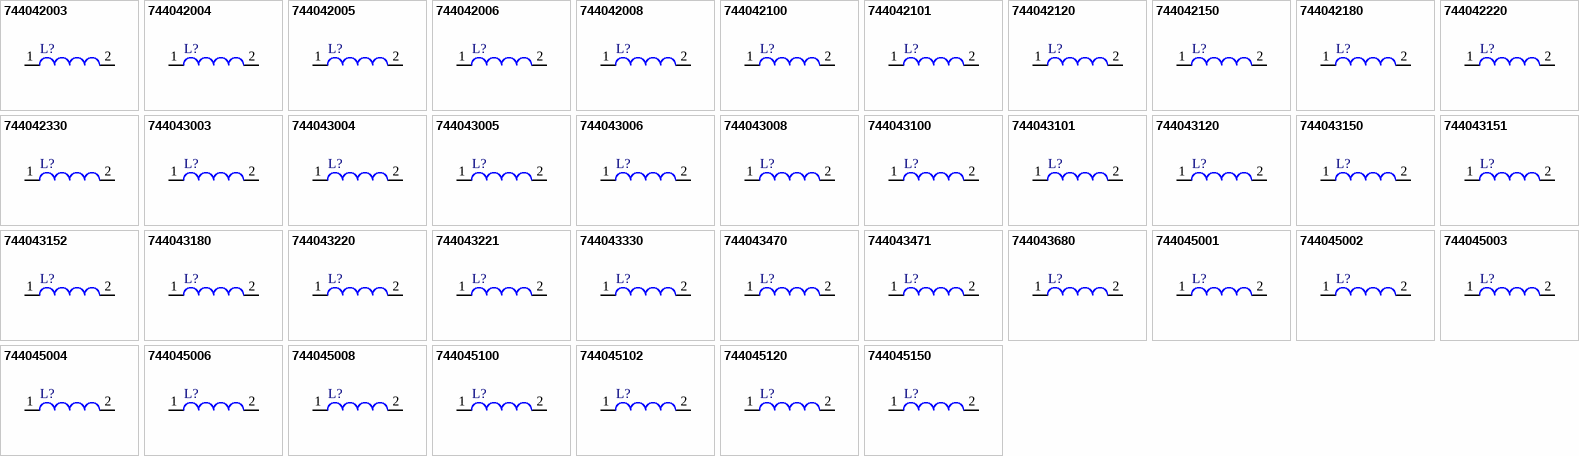
[diagram p7: symbols 744042003 to 744045150]

## 744042003
designator L?
SMD Shielded Tiny Power Inductor WE-TPC, L = 3.30 µH; Inductance: 3.30 µH; DatasheetVersion: ver 6, Aug-2010; PackageVersion: 2010; PackageReference: WE-TPC-4818-M; PackageDescription: SMD Inductor, 2-Leads, Body 4.8 x 4.8 mm; ComponentLink1Description: Manufacturer URL; ComponentLink1URL: http://www.we-online.com; ComponentLink2Description: Datasheet; ComponentLink2URL: http://www.we-online.de/katalog/media/pdf/744042003.pdf
footprint WE-TPC-4818-M (SMD Inductor, 2-Leads, Body 4.8x4.8x2.0 mm)
pins: 1, 2

## 744042004
designator L?
SMD Shielded Tiny Power Inductor WE-TPC, L = 4.70 µH; Inductance: 4.70 µH; DatasheetVersion: ver 6, Aug-2010; PackageVersion: 2010; PackageReference: WE-TPC-4818-M; PackageDescription: SMD Inductor, 2-Leads, Body 4.8 x 4.8 mm; ComponentLink1Description: Manufacturer URL; ComponentLink1URL: http://www.we-online.com; ComponentLink2Description: Datasheet; ComponentLink2URL: http://www.we-online.de/katalog/media/pdf/744042004.pdf
footprint WE-TPC-4818-M (SMD Inductor, 2-Leads, Body 4.8x4.8x2.0 mm)
pins: 1, 2

## 744042005
designator L?
SMD Shielded Tiny Power Inductor WE-TPC, L = 5.60 µH; Inductance: 5.60 µH; DatasheetVersion: ver 6, Aug-2010; PackageVersion: 2010; PackageReference: WE-TPC-4818-M; PackageDescription: SMD Inductor, 2-Leads, Body 4.8 x 4.8 mm; ComponentLink1Description: Manufacturer URL; ComponentLink1URL: http://www.we-online.com; ComponentLink2Description: Datasheet; ComponentLink2URL: http://www.we-online.de/katalog/media/pdf/744042005.pdf
footprint WE-TPC-4818-M (SMD Inductor, 2-Leads, Body 4.8x4.8x2.0 mm)
pins: 1, 2

## 744042006
designator L?
SMD Shielded Tiny Power Inductor WE-TPC, L = 6.80 µH; Inductance: 6.80 µH; DatasheetVersion: ver 6, Aug-2010; PackageVersion: 2010; PackageReference: WE-TPC-4818-M; PackageDescription: SMD Inductor, 2-Leads, Body 4.8 x 4.8 mm; ComponentLink1Description: Manufacturer URL; ComponentLink1URL: http://www.we-online.com; ComponentLink2Description: Datasheet; ComponentLink2URL: http://www.we-online.de/katalog/media/pdf/744042006.pdf
footprint WE-TPC-4818-M (SMD Inductor, 2-Leads, Body 4.8x4.8x2.0 mm)
pins: 1, 2

## 744042008
designator L?
SMD Shielded Tiny Power Inductor WE-TPC, L = 8.20 µH; Inductance: 8.20 µH; DatasheetVersion: ver 6, Aug-2010; PackageVersion: 2010; PackageReference: WE-TPC-4818-M; PackageDescription: SMD Inductor, 2-Leads, Body 4.8 x 4.8 mm; ComponentLink1Description: Manufacturer URL; ComponentLink1URL: http://www.we-online.com; ComponentLink2Description: Datasheet; ComponentLink2URL: http://www.we-online.de/katalog/media/pdf/744042008.pdf
footprint WE-TPC-4818-M (SMD Inductor, 2-Leads, Body 4.8x4.8x2.0 mm)
pins: 1, 2

## 744042100
designator L?
SMD Shielded Tiny Power Inductor WE-TPC, L = 10.0 µH; Inductance: 10.0 µH; DatasheetVersion: ver 6, Aug-2010; PackageVersion: 2010; PackageReference: WE-TPC-4818-M; PackageDescription: SMD Inductor, 2-Leads, Body 4.8 x 4.8 mm; ComponentLink1Description: Manufacturer URL; ComponentLink1URL: http://www.we-online.com; ComponentLink2Description: Datasheet; ComponentLink2URL: http://www.we-online.de/katalog/media/pdf/744042100.pdf
footprint WE-TPC-4818-M (SMD Inductor, 2-Leads, Body 4.8x4.8x2.0 mm)
pins: 1, 2

## 744042101
designator L?
SMD Shielded Tiny Power Inductor WE-TPC, L = 100 µH; Inductance: 100 µH; DatasheetVersion: ver 6, Aug-2010; PackageVersion: 2010; PackageReference: WE-TPC-4818-M; PackageDescription: SMD Inductor, 2-Leads, Body 4.8 x 4.8 mm; ComponentLink1Description: Manufacturer URL; ComponentLink1URL: http://www.we-online.com; ComponentLink2Description: Datasheet; ComponentLink2URL: http://www.we-online.de/katalog/media/pdf/744042101.pdf
footprint WE-TPC-4818-M (SMD Inductor, 2-Leads, Body 4.8x4.8x2.0 mm)
pins: 1, 2

## 744042120
designator L?
SMD Shielded Tiny Power Inductor WE-TPC, L = 12.0 µH; Inductance: 12.0 µH; DatasheetVersion: ver 6, Aug-2010; PackageVersion: 2010; PackageReference: WE-TPC-4818-M; PackageDescription: SMD Inductor, 2-Leads, Body 4.8 x 4.8 mm; ComponentLink1Description: Manufacturer URL; ComponentLink1URL: http://www.we-online.com; ComponentLink2Description: Datasheet; ComponentLink2URL: http://www.we-online.de/katalog/media/pdf/744042120.pdf
footprint WE-TPC-4818-M (SMD Inductor, 2-Leads, Body 4.8x4.8x2.0 mm)
pins: 1, 2

## 744042150
designator L?
SMD Shielded Tiny Power Inductor WE-TPC, L = 15.0 µH; Inductance: 15.0 µH; DatasheetVersion: ver 6, Aug-2010; PackageVersion: 2010; PackageReference: WE-TPC-4818-M; PackageDescription: SMD Inductor, 2-Leads, Body 4.8 x 4.8 mm; ComponentLink1Description: Manufacturer URL; ComponentLink1URL: http://www.we-online.com; ComponentLink2Description: Datasheet; ComponentLink2URL: http://www.we-online.de/katalog/media/pdf/744042150.pdf
footprint WE-TPC-4818-M (SMD Inductor, 2-Leads, Body 4.8x4.8x2.0 mm)
pins: 1, 2

## 744042180
designator L?
SMD Shielded Tiny Power Inductor WE-TPC, L = 18.0 µH; Inductance: 18.0 µH; DatasheetVersion: ver 6, Aug-2010; PackageVersion: 2010; PackageReference: WE-TPC-4818-M; PackageDescription: SMD Inductor, 2-Leads, Body 4.8 x 4.8 mm; ComponentLink1Description: Manufacturer URL; ComponentLink1URL: http://www.we-online.com; ComponentLink2Description: Datasheet; ComponentLink2URL: http://www.we-online.de/katalog/media/pdf/744042180.pdf
footprint WE-TPC-4818-M (SMD Inductor, 2-Leads, Body 4.8x4.8x2.0 mm)
pins: 1, 2

## 744042220
designator L?
SMD Shielded Tiny Power Inductor WE-TPC, L = 22.0 µH; Inductance: 22.0 µH; DatasheetVersion: ver 6, Aug-2010; PackageVersion: 2010; PackageReference: WE-TPC-4818-M; PackageDescription: SMD Inductor, 2-Leads, Body 4.8 x 4.8 mm; ComponentLink1Description: Manufacturer URL; ComponentLink1URL: http://www.we-online.com; ComponentLink2Description: Datasheet; ComponentLink2URL: http://www.we-online.de/katalog/media/pdf/744042220.pdf
footprint WE-TPC-4818-M (SMD Inductor, 2-Leads, Body 4.8x4.8x2.0 mm)
pins: 1, 2